# Altium footprint library AltTab_PCB_Chip.PcbLib: 105 footprints (part 2 of 7)
Each footprint in its own frame and in the unit in brackets; x right, y up, seen from the top. Pads: shape width x height; smd on the part's side, far side on the other; paste and mask are expansions set on the pad; w line width, h text height; cw(c..) or ccw(c..) is an arc to the next point about the centre after c.
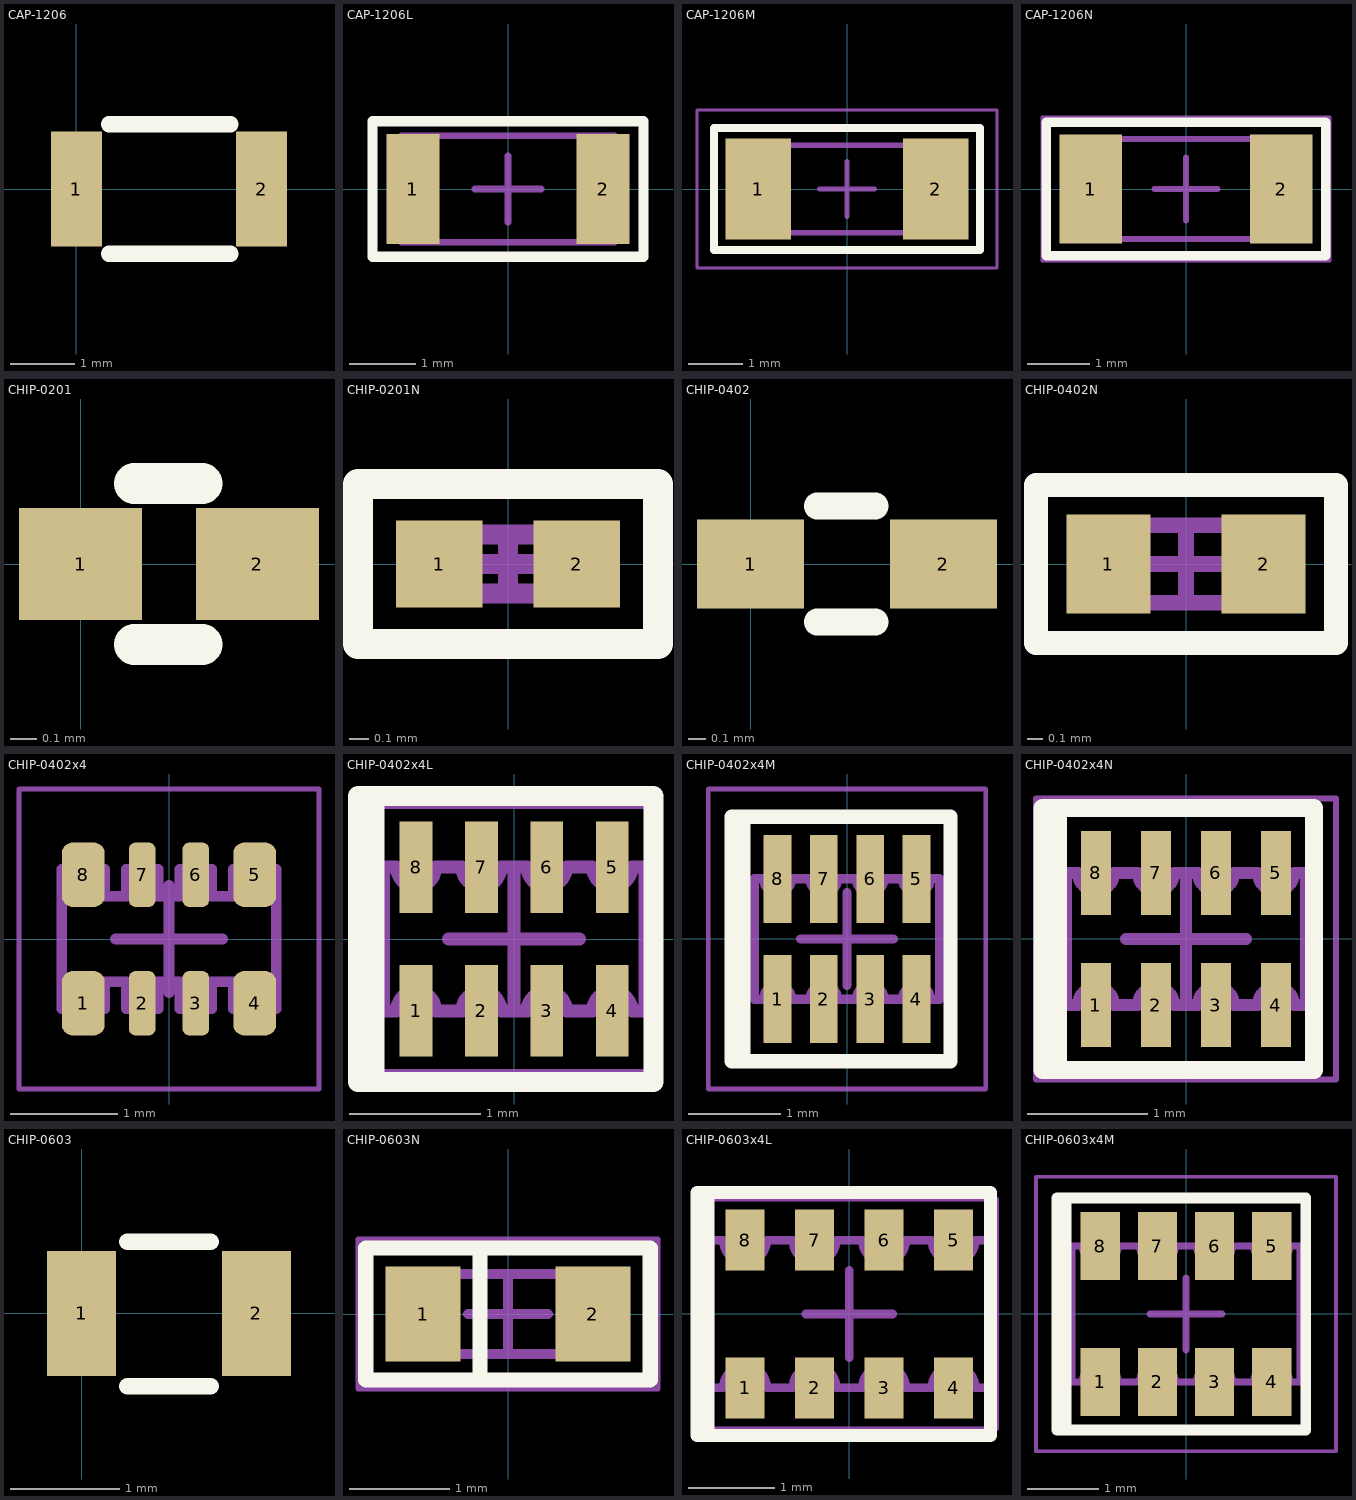
[diagram p1: the footprints below, top view; thin cyan lines are the x and y axes]

## CAP-1206 [mm]
pads (2):
  rect 0.8x1.8 smd mask+0.05: 1(0,0) 2(2.9,0)
Top Overlay:
  lines w0.254: 0.508,-1.016 2.413,-1.016 ; 0.508,1.016 2.413,1.016
3D body "Chip Cap_MLCC_1206.step": height 1.15, standoff 0, extent -0.127,-0.813 3.073,0.787

## CAP-1206L [mm]
height 1.6
pads (2):
  rect 0.8x1.65 smd: 1(-1.425,0) 2(1.425,0)
Top Overlay:
  lines w0.152: -2.032,-1.016 -2.032,1.016 2.032,1.016 2.032,-1.016 1.118,-1.016 -0.182,-1.016 -2.032,-1.016
Assembly Top:
  lines w0.1: -1.6,-0.8 1.6,-0.8 1.6,0.8 -1.6,0.8 -1.6,-0.8
Courtyard Top:
  lines w0.05: -2.032,-1.016 2.032,-1.016 2.032,1.016 -2.032,1.016 -2.032,-1.016
  lines w0.1: -0.5,0 0.5,0 ; 0,-0.5 0,0.5
3D body "Chip2PinSM127P600-8N.step": height 1.6, standoff 0, extent -1.6,-0.8 1.6,0.8

## CAP-1206M [mm]
height 1.6
pads (2):
  rect 1.2x1.85 smd: 1(-1.625,0) 2(1.625,0)
Top Overlay:
  lines w0.152: -2.438,-1.118 -2.438,1.118 2.438,1.118 2.438,-1.118 1.219,-1.118 -0.284,-1.118 -2.438,-1.118
Assembly Top:
  lines w0.1: -1.6,-0.8 -1.6,0.8 1.6,0.8 1.6,-0.8 -1.6,-0.8
Courtyard Top:
  lines w0.05: -2.75,-1.45 -2.75,1.45 2.75,1.45 2.75,-1.45 -2.75,-1.45
  lines w0.1: -0.5,0 0.5,0 ; 0,-0.5 0,0.5
3D body "Chip2PinSM127P600-8N.step": height 1.6, standoff 0, extent -1.6,-0.8 1.6,0.8

## CAP-1206N [mm] "Chip Capacitor, 2-Leads, Body 3,20x1,60mm, IPC Medium Density"
height 1.6
pads (2):
  rect 1x1.75 smd: 1(-1.525,0) 2(1.525,0)
Top Overlay:
  lines w0.152: -2.235,-1.067 -2.235,1.067 2.235,1.067 2.235,-1.067 1.067,-1.067 -0.233,-1.067 -2.235,-1.067
Assembly Top:
  lines w0.1: -1.6,-0.8 1.6,-0.8 1.6,0.8 -1.6,0.8 -1.6,-0.8
Courtyard Top:
  lines w0.05: -2.3,-1.15 2.3,-1.15 2.3,1.15 -2.3,1.15 -2.3,-1.15
  lines w0.1: -0.5,0 0.5,0 ; 0,-0.5 0,0.5
3D body "CAP-1206N.step": height 1.6, standoff 0, extent -1.6,-0.8 1.6,0.8

## CHIP-0201 [mm]
pads (2):
  rect 0.46x0.42 smd mask+0.05: 1(0,0) 2(0.66,0)
Top Overlay:
  lines w0.152: 0.2,-0.3 0.454,-0.3 ; 0.2,0.3 0.454,0.3

## CHIP-0201N [mm]
height 0.23
pads (2):
  rect 0.44x0.44 smd: 1(-0.35,0) 2(0.35,0)
Top Overlay:
  lines w0.152: -0.711,-0.406 0.762,-0.406 0.762,0.33 0.762,0.406 -0.66,0.406 -0.762,0.406 -0.762,-0.406 -0.61,-0.406
Assembly Top:
  lines w0.1: -0.3,-0.15 -0.3,0.15 0.3,0.15 0.3,-0.15 -0.3,-0.15
Courtyard Top:
  lines w0.05: -0.762,-0.406 -0.762,0.406 0.762,0.406 0.762,-0.406 -0.762,-0.406
  lines w0.1: -0.15,0 0.15,0 ; 0,-0.15 0,0.15
3D body: height 0.23, standoff 0, extent -0.2,-0.15 0.2,0.15
3D body: height 0.23, standoff 0, extent -0.3,-0.15 -0.2,0.15
3D body: height 0.23, standoff 0, extent 0.2,-0.15 0.3,0.15

## CHIP-0402 [mm]
pads (2):
  rect 0.61x0.51 smd mask+0.05: 1(0,0) 2(1.1,0)
Top Overlay:
  lines w0.152: 0.381,-0.33 0.711,-0.33 ; 0.381,0.33 0.711,0.33

## CHIP-0402N [mm]
height 0.35
pads (2):
  rect 0.54x0.64 smd: 1(-0.5,0) 2(0.5,0)
Top Overlay:
  lines w0.152: -0.965,-0.508 -0.965,-0.483 -0.965,0.508 0.305,0.508 0.965,0.508 0.965,-0.102 0.965,-0.508 -0.94,-0.508 ; -0.051,0.508 -0.025,0.508
Assembly Top:
  lines w0.1: -0.5,-0.25 -0.5,0.25 0.5,0.25 0.5,-0.25 -0.5,-0.25
Courtyard Top:
  lines w0.05: -0.965,-0.508 -0.965,0.508 0.965,0.508 0.965,-0.508 -0.965,-0.508
  lines w0.1: -0.25,0 0.25,0 ; 0,-0.25 0,0.25
3D body: height 0.35, standoff 0, extent -0.3,-0.25 0.3,0.25
3D body: height 0.35, standoff 0, extent -0.5,-0.25 -0.3,0.25
3D body: height 0.35, standoff 0, extent 0.3,-0.25 0.5,0.25

## CHIP-0402x4 [mm] "Chip Array, ConvexS, 8-Leads, Pitch 0,50mm,  Body 2,00x1,00mm,  IPC Low Density"
height 0.45
pads (8):
  rrect50% 0.4x0.6 smd mask+0.05: 1(-0.8,-0.6) 4(0.8,-0.6) 5(0.8,0.6) 8(-0.8,0.6)
  rrect50% 0.25x0.6 smd mask+0.05: 2(-0.25,-0.6) 3(0.25,-0.6) 6(0.25,0.6) 7(-0.25,0.6)
Mechanical 8:
  lines w0.1: -1,-0.65 -0.6,-0.65 -0.6,-0.4 -0.4,-0.4 -0.4,-0.65 -0.1,-0.65 -0.1,-0.4 0.1,-0.4 0.1,-0.65 0.4,-0.65 0.4,-0.4 0.6,-0.4 0.6,-0.65 1,-0.65 1,0.65 0.6,0.65 0.6,0.4 0.4,0.4 0.4,0.65 0.1,0.65 0.1,0.4 -0.1,0.4 -0.1,0.65 -0.4,0.65 -0.4,0.4 -0.6,0.4 -0.6,0.65 -1,0.65 -1,-0.65
Mechanical 10:
  lines w0.05: -1.4,-1.4 -1.4,1.4 1.4,1.4 1.4,-1.4 -1.4,-1.4
  lines w0.1: -0.5,0 0.5,0 ; 0,-0.5 0,0.5
3D body: height 0.45, standoff 0, extent -1,-0.5 1,0.5

## CHIP-0402x4L [mm] "Chip Array, Concave, 8-Leads, Pitch 0,50mm,  Body 2,00x1,00mm,  IPC High Density"
height 0.45
pads (8):
  rect 0.25x0.7 smd: 1(-0.75,-0.55) 2(-0.25,-0.55) 3(0.25,-0.55) 4(0.75,-0.55) 5(0.75,0.55) 6(0.25,0.55) 7(-0.25,0.55) 8(-0.75,0.55)
Top Overlay:
  lines w0.152: -0.914,-1.092 -1.194,-1.092 -1.194,0.152 -1.194,1.092 -0.889,1.092 ; 1.067,-0.914 1.067,1.092 0.838,1.092 -0.787,1.092 -1.067,1.092 -1.067,0.432 -1.067,-1.092 0.94,-1.092 1.067,-1.092 1.067,-0.889
Assembly Top:
  lines w0.1: -1,-0.55 -0.9,-0.55 cw(c-0.75,-0.55) -0.6,-0.55 -0.4,-0.55 cw(c-0.25,-0.55) -0.1,-0.55 0.1,-0.55 cw(c0.25,-0.55) 0.4,-0.55 0.6,-0.55 cw(c0.75,-0.55) 0.9,-0.55 1,-0.55 1,0.55 0.9,0.55 cw(c0.75,0.55) 0.6,0.55 0.4,0.55 cw(c0.25,0.55) 0.1,0.55 -0.1,0.55 cw(c-0.25,0.55) -0.4,0.55 -0.6,0.55 cw(c-0.75,0.55) -0.9,0.55 -1,0.55 -1,-0.55
Courtyard Top:
  lines w0.05: -1.1,-1.02 1.1,-1.02 1.1,1.02 -1.1,1.02 -1.1,-1.02
  lines w0.1: -0.5,0 0.5,0 ; 0,-0.5 0,0.5
3D body "CAC-50P200X100-8L.step": height 0.45, standoff 0, extent -1,-0.55 1,0.55

## CHIP-0402x4M [mm] "Chip Array, Concave, 8-Leads, Pitch 0,50mm,  Body 2,00x1,00mm,  IPC Low Density"
height 0.45
pads (8):
  rect 0.3x0.95 smd: 1(-0.75,-0.65) 2(-0.25,-0.65) 3(0.25,-0.65) 4(0.75,-0.65) 5(0.75,0.65) 6(0.25,0.65) 7(-0.25,0.65) 8(-0.75,0.65)
Top Overlay:
  lines w0.152: -1.067,-1.321 -1.245,-1.321 -1.245,-0.813 -1.245,0.787 -1.245,1.321 -0.991,1.321 ; -1.118,-1.321 -0.407,-1.321 1.117,-1.321 1.117,-1.245 1.117,1.321 0.584,1.321 -0.813,1.321 -1.118,1.321 -1.118,1.016 -1.118,-1.321
Assembly Top:
  lines w0.1: -1,-0.65 -0.9,-0.65 cw(c-0.75,-0.65) -0.6,-0.65 -0.4,-0.65 cw(c-0.25,-0.65) -0.1,-0.65 0.1,-0.65 cw(c0.25,-0.65) 0.4,-0.65 0.6,-0.65 cw(c0.75,-0.65) 0.9,-0.65 1,-0.65 1,0.65 0.9,0.65 cw(c0.75,0.65) 0.6,0.65 0.4,0.65 cw(c0.25,0.65) 0.1,0.65 -0.1,0.65 cw(c-0.25,0.65) -0.4,0.65 -0.6,0.65 cw(c-0.75,0.65) -0.9,0.65 -1,0.65 -1,-0.65
Courtyard Top:
  lines w0.05: -1.5,-1.62 -1.5,1.62 1.5,1.62 1.5,-1.62 -1.5,-1.62
  lines w0.1: -0.5,0 0.5,0 ; 0,-0.5 0,0.5
3D body "CAC-50P200X100-8M.step": height 0.45, standoff 0, extent -1,-0.55 1,0.55

## CHIP-0402x4N [mm] "Chip Array, Concave, 8-Leads, Pitch 0,50mm,  Body 2,00x1,00mm,  IPC Medium Density"
height 0.45
pads (8):
  rect 0.25x0.7 smd: 1(-0.75,-0.55) 2(-0.25,-0.55) 3(0.25,-0.55) 4(0.75,-0.55) 5(0.75,0.55) 6(0.25,0.55) 7(-0.25,0.55) 8(-0.75,0.55)
Top Overlay:
  lines w0.152: -1.016,-1.093 -1.194,-1.093 -1.194,0.965 -1.194,1.092 -0.966,1.092 ; -0.661,-1.093 1.066,-1.093 1.066,0.203 1.066,1.092 0.812,1.092 -0.889,1.092 -1.067,1.092 -1.067,-0.051 -1.067,-1.093 -0.585,-1.093
Assembly Top:
  lines w0.1: -1,-0.55 -1,0.55 -0.9,0.55 ccw(c-0.75,0.55) -0.6,0.55 -0.4,0.55 ccw(c-0.25,0.55) -0.1,0.55 0.1,0.55 ccw(c0.25,0.55) 0.4,0.55 0.6,0.55 ccw(c0.75,0.55) 0.9,0.55 1,0.55 1,-0.55 0.9,-0.55 ccw(c0.75,-0.55) 0.6,-0.55 0.4,-0.55 ccw(c0.25,-0.55) 0.1,-0.55 -0.1,-0.55 ccw(c-0.25,-0.55) -0.4,-0.55 -0.6,-0.55 ccw(c-0.75,-0.55) -0.9,-0.55 -1,-0.55
Courtyard Top:
  lines w0.05: -1.25,-1.17 1.25,-1.17 1.25,1.17 -1.25,1.17 -1.25,-1.17
  lines w0.1: -0.5,0 0.5,0 ; 0,-0.5 0,0.5
3D body "CAC-50P200X100-8N.step": height 0.45, standoff 0, extent -1,-0.55 1,0.55

## CHIP-0603 [mil]
pads (2):
  rect 25x45 smd mask+1.97: 1(0,0) 2(62.99,0)
Top Overlay:
  lines w6: 16.5,-26.25 46.5,-26.25 ; 16.5,25.75 46.5,25.75

## CHIP-0603N [mm]
height 0.45
pads (2):
  rect 0.75x0.95 smd: 1(-0.85,0) 2(0.85,0)
Top Overlay:
  lines w0.152: -1.27,-0.66 -1.422,-0.66 ; -0.33,0.66 -0.279,0.66 -0.279,-0.66 ; -1.422,-0.66 -1.422,-0.127 -1.422,0.66 0,0.66 1.422,0.66 1.422,0 1.422,-0.66 -1.422,-0.66
Assembly Top:
  lines w0.1: -0.8,-0.4 0.8,-0.4 0.8,0.4 -0.8,0.4 -0.8,-0.4
Courtyard Top:
  lines w0.05: -1.5,-0.75 1.5,-0.75 1.5,0.75 -1.5,0.75 -1.5,-0.75
  lines w0.1: -0.4,0 0.4,0 ; 0,-0.4 0,0.4
3D body: height 0.45, standoff 0, extent 0.55,-0.4 0.8,0.4
3D body: height 0.45, standoff 0, extent -0.8,-0.4 -0.55,0.4
3D body: height 0.45, standoff 0, extent -0.55,-0.4 0.55,0.4

## CHIP-0603x4L [mm] "Chip Array, Concave, 8-Leads, Pitch 0,80mm,  Body 3,20x1,60mm,  IPC High Density"
height 0.6
pads (8):
  rect 0.45x0.7 smd: 1(-1.2,-0.85) 2(-0.4,-0.85) 3(0.4,-0.85) 4(1.2,-0.85) 5(1.2,0.85) 6(0.4,0.85) 7(-0.4,0.85) 8(-1.2,0.85)
Top Overlay:
  lines w0.152: -1.499,-1.397 -1.753,-1.397 -1.753,0.051 -1.753,1.397 -1.448,1.397 ; 1.625,-0.838 1.625,1.397 0.584,1.397 -1.626,1.397 -1.626,0.381 -1.626,-1.397 1.346,-1.397 1.625,-1.397 1.625,-0.762
Assembly Top:
  lines w0.1: -1.6,-0.85 -1.45,-0.85 cw(c-1.2,-0.85) -0.95,-0.85 -0.65,-0.85 cw(c-0.4,-0.85) -0.15,-0.85 0.15,-0.85 cw(c0.4,-0.85) 0.65,-0.85 0.95,-0.85 cw(c1.2,-0.85) 1.45,-0.85 1.6,-0.85 1.6,0.85 1.45,0.85 cw(c1.2,0.85) 0.95,0.85 0.65,0.85 cw(c0.4,0.85) 0.15,0.85 -0.15,0.85 cw(c-0.4,0.85) -0.65,0.85 -0.95,0.85 cw(c-1.2,0.85) -1.45,0.85 -1.6,0.85 -1.6,-0.85
Courtyard Top:
  lines w0.05: -1.7,-1.32 -1.7,1.32 1.7,1.32 1.7,-1.32 -1.7,-1.32
  lines w0.1: -0.5,0 0.5,0 ; 0,-0.5 0,0.5
3D body "CAC-80P320X160-8L.step": height 0.6, standoff 0, extent -1.6,-0.85 1.6,0.85

## CHIP-0603x4M [mm] "Chip Array, Concave, 8-Leads, Pitch 0,80mm,  Body 3,20x1,60mm,  IPC Low Density"
height 0.6
pads (8):
  rect 0.55x0.95 smd: 1(-1.2,-0.95) 2(-0.4,-0.95) 3(0.4,-0.95) 4(1.2,-0.95) 5(1.2,0.95) 6(0.4,0.95) 7(-0.4,0.95) 8(-1.2,0.95)
Top Overlay:
  lines w0.152: -1.55,-1.626 -1.804,-1.626 -1.804,-0.66 -1.804,1.626 -1.423,1.626 ; 1.676,-1.397 1.676,1.626 1.371,1.626 -1.423,1.626 ; 1.676,-1.372 1.676,-1.626 -0.508,-1.626 -1.677,-1.626 -1.677,0.483 -1.677,1.626 -1.423,1.626
Assembly Top:
  lines w0.1: -1.6,-0.95 -1.45,-0.95 cw(c-1.2,-0.95) -0.95,-0.95 -0.65,-0.95 cw(c-0.4,-0.95) -0.15,-0.95 0.15,-0.95 cw(c0.4,-0.95) 0.65,-0.95 0.95,-0.95 cw(c1.2,-0.95) 1.45,-0.95 1.6,-0.95 1.6,0.95 1.45,0.95 cw(c1.2,0.95) 0.95,0.95 0.65,0.95 cw(c0.4,0.95) 0.15,0.95 -0.15,0.95 cw(c-0.4,0.95) -0.65,0.95 -0.95,0.95 cw(c-1.2,0.95) -1.45,0.95 -1.6,0.95 -1.6,-0.95
Courtyard Top:
  lines w0.05: -2.1,-1.92 -2.1,1.92 2.1,1.92 2.1,-1.92 -2.1,-1.92
  lines w0.1: -0.5,0 0.5,0 ; 0,-0.5 0,0.5
3D body "CAC-80P320X160-8M.step": height 0.6, standoff 0, extent -1.6,-0.85 1.6,0.85